# EAGLE library part 25AA160A-I/SN (library Microchip_By_element14_Batch_1)
16K SPI Bus Serial EEPROM
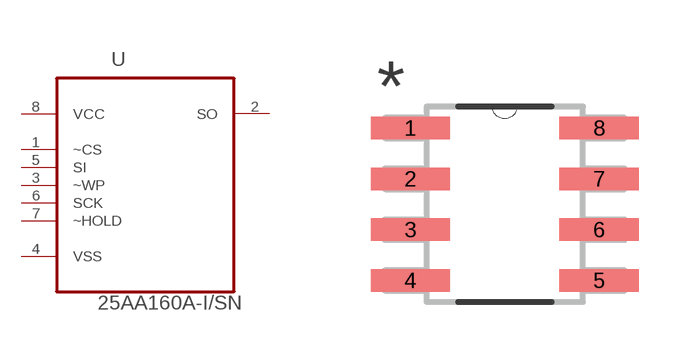
[diagram p121: symbol with the pads of SOIC127P600X175-8N; footprint SOIC127P600X175-8N]

Designator prefix -

## 25AA160A-I/SN (MPN: 25AA160B-I/SN; OC_FARNELL: -; OC_NEWARK: 30H1571; PACKAGE: SOIC-8; SUPPLIER: MICROCHIP)  [SOIC127P600X175-8N]
1  ~CS  in
2  SO  out
3  ~WP  in
4  VSS  pas
5  SI  in
6  SCK  in
7  ~HOLD  in
8  VCC  pwr

## Footprint SOIC127P600X175-8N (pad centres in mm)
smd 1.981 x 0.559: 1 -2.362,1.905; 2 -2.362,0.635; 3 -2.362,-0.635; 4 -2.362,-1.905; 5 2.362,-1.905; 6 2.362,-0.635; 7 2.362,0.635; 8 2.362,1.905